# Altium schematic symbol library CMI-1275-85T.SchLib: 1 symbol
Pins are listed as number, name and electrical type; pins without a type are passive.

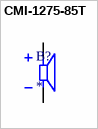
[diagram p0: symbol CMI-1275-85T]

## CMI-1275-85T
designator B?
5V CUI Inc Buzzer; MP: CMI-1275-85T; Price: None; Availability: Unavailable; Package: None; Value: *
footprint CUI_CMI-1275-85T
pins: N, P